# Altium footprint library LC-MBF.PcbLib: 1 footprints
Each footprint in its own frame and in the unit in brackets; x right, y up, seen from the top. Pads: shape width x height; smd on the part's side, far side on the other; paste and mask are expansions set on the pad; w line width, h text height; cw(c..) or ccw(c..) is an arc to the next point about the centre after c.
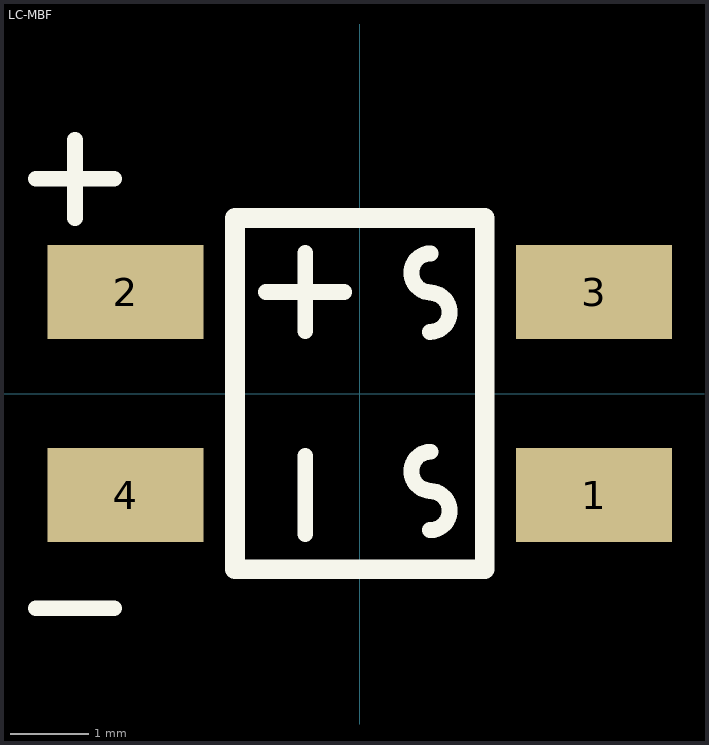
[diagram p0: the footprint, top view; thin cyan lines are the x and y axes]

## LC-MBF [mm]
pads (4):
  rect 2x1.2 smd: 1(3,-1.3) 2(-3,1.3) 3(3,1.3) 4(-3,-1.3)
Top Overlay:
  lines w0.203: -4.15,-2.75 -3.15,-2.75 ; -4.15,2.75 -3.15,2.75 ; -3.65,2.25 -3.65,3.25 ; -1.2,1.3 -0.2,1.3 ; -0.7,-1.8 -0.7,-0.8 ; -0.7,0.8 -0.7,1.8 ; 0.9,-1.75 ccw(c0.9,-1.5) 0.9,-1.25 ; 0.9,0.79 ccw(c0.9,1.04) 0.9,1.29 ; 0.908,-1.245 cw(c0.908,-0.995) 0.908,-0.745 ; 0.908,1.295 cw(c0.908,1.545) 0.908,1.795
  lines w0.254: -1.6,-2.25 -1.6,2.25 1.6,2.25 1.6,-2.25 -1.6,-2.25
3D body "MBF.STEP": height 1.5, standoff -0.03, extent -3.4,-2.497 3.5,2.497